# Altium schematic symbol library Active.SchLib: 21 symbols
Pins are listed as number, name and electrical type; pins without a type are passive.

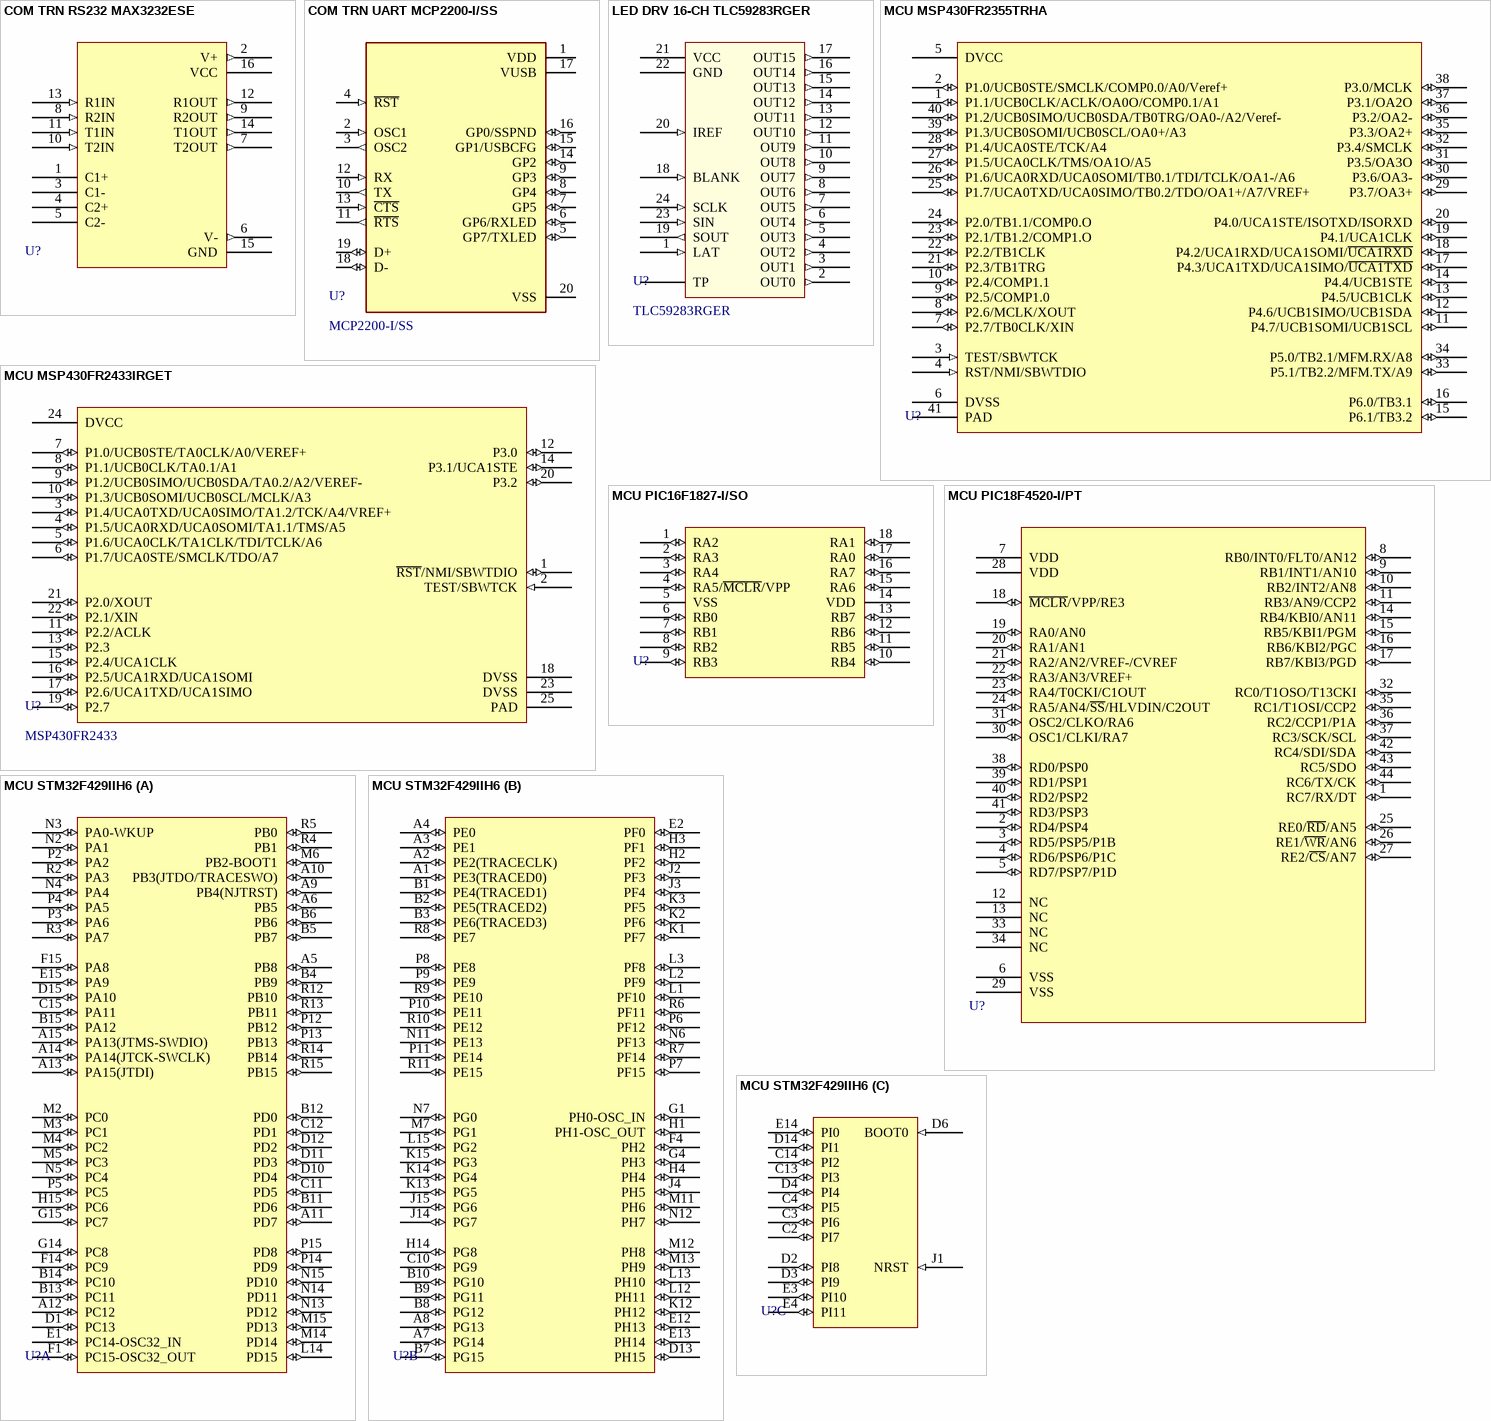
[diagram p0: symbols COM TRN RS232 MAX3232ESE to MCU STM32F429IIH6]

## COM TRN RS232 MAX3232ESE
designator U?
footprint SMD SOIC-16
pins: 1 C1+, 2 V+ (out), 3 C1-, 4 C2+, 5 C2-, 6 V- (out), 7 T2OUT (out), 8 R2IN (in), 9 R2OUT (out), 10 T2IN (in), 11 T1IN (in), 12 R1OUT (out), 13 R1IN (in), 14 T1OUT (out), 15 GND (power), 16 VCC (power)

## COM TRN UART MCP2200-I/SS
designator U?, comment MCP2200-I/SS
footprint SMD SSOP-20
pins: 1 VDD (power), 2 OSC1 (in), 3 OSC2 (out), 4 ~{RST} (in), 5 GP7/TXLED (io), 6 GP6/RXLED (io), 7 GP5 (io), 8 GP4 (io), 9 GP3 (io), 10 TX (out), 11 ~{RTS} (out), 12 RX (in), 13 ~{CTS} (in), 14 GP2 (io), 15 GP1/USBCFG (io), 16 GP0/SSPND (io), 17 VUSB (power), 18 D- (io), 19 D+ (io), 20 VSS (power)

## LED DRV 16-CH TLC59283RGER
designator U?, comment TLC59283RGER
footprint VQFN-24
pins: 1 LAT (in), 2 OUT0 (out), 3 OUT1 (out), 4 OUT2 (out), 5 OUT3 (out), 6 OUT4 (out), 7 OUT5 (out), 8 OUT6 (out), 9 OUT7 (out), 10 OUT8 (out), 11 OUT9 (out), 12 OUT10 (out), 13 OUT11 (out), 14 OUT12 (out), 15 OUT13 (out), 16 OUT14 (out), 17 OUT15 (out), 18 BLANK (in), 19 SOUT (out), 20 IREF (in), 21 VCC (power), 22 GND (power), 23 SIN (in), 24 SCLK (in), 25 TP (power)

## MCU MSP430FR2355TRHA
designator U?
footprint VQFN-40 (QFN, 40-Leads, Body 6.00x6.00mm, Pitch 0.50mm, Thermal Pad 3.52x2.62mm, IPC Medium Density)
pins: 1 P1.1/UCB0CLK/ACLK/OA0O/COMP0.1/A1 (io), 2 P1.0/UCB0STE/SMCLK/COMP0.0/A0/Veref+ (io), 3 TEST/SBWTCK (in), 4 RST/NMI/SBWTDIO (in), 5 DVCC (power), 6 DVSS (power), 7 P2.7/TB0CLK/XIN (io), 8 P2.6/MCLK/XOUT (io), 9 P2.5/COMP1.0 (io), 10 P2.4/COMP1.1 (io), 11 P4.7/UCB1SOMI/UCB1SCL (io), 12 P4.6/UCB1SIMO/UCB1SDA (io), 13 P4.5/UCB1CLK (io), 14 P4.4/UCB1STE (io), 15 P6.1/TB3.2 (io), 16 P6.0/TB3.1 (io), 17 P4.3/UCA1TXD/UCA1SIMO/~{UCA1TXD} (io), 18 P4.2/UCA1RXD/UCA1SOMI/~{UCA1RXD} (io), 19 P4.1/UCA1CLK (io), 20 P4.0/UCA1STE/ISOTXD/ISORXD (io), 21 P2.3/TB1TRG (io), 22 P2.2/TB1CLK (io), 23 P2.1/TB1.2/COMP1.O (io), 24 P2.0/TB1.1/COMP0.O (io), 25 P1.7/UCA0TXD/UCA0SIMO/TB0.2/TDO/OA1+/A7/VREF+ (io), 26 P1.6/UCA0RXD/UCA0SOMI/TB0.1/TDI/TCLK/OA1-/A6 (io), 27 P1.5/UCA0CLK/TMS/OA1O/A5 (io), 28 P1.4/UCA0STE/TCK/A4 (io), 29 P3.7/OA3+ (io), 30 P3.6/OA3- (io), 31 P3.5/OA3O (io), 32 P3.4/SMCLK (io), 33 P5.1/TB2.2/MFM.TX/A9 (io), 34 P5.0/TB2.1/MFM.RX/A8 (io), 35 P3.3/OA2+ (io), 36 P3.2/OA2- (io), 37 P3.1/OA2O (io), 38 P3.0/MCLK (io), 39 P1.3/UCB0SOMI/UCB0SCL/OA0+/A3 (io), 40 P1.2/UCB0SIMO/UCB0SDA/TB0TRG/OA0-/A2/Veref- (io), 41 PAD (power)

## MCU MSP430FR2433IRGET
designator U?, comment MSP430FR2433
footprint VQFN-24
pins: 1 ~{RST}/NMI/SBWTDIO (io), 2 TEST/SBWTCK (in), 3 P1.4/UCA0TXD/UCA0SIMO/TA1.2/TCK/A4/VREF+ (io), 4 P1.5/UCA0RXD/UCA0SOMI/TA1.1/TMS/A5 (io), 5 P1.6/UCA0CLK/TA1CLK/TDI/TCLK/A6 (io), 6 P1.7/UCA0STE/SMCLK/TDO/A7 (io), 7 P1.0/UCB0STE/TA0CLK/A0/VEREF+ (io), 8 P1.1/UCB0CLK/TA0.1/A1 (io), 9 P1.2/UCB0SIMO/UCB0SDA/TA0.2/A2/VEREF- (io), 10 P1.3/UCB0SOMI/UCB0SCL/MCLK/A3 (io), 11 P2.2/ACLK (io), 12 P3.0 (io), 13 P2.3 (io), 14 P3.1/UCA1STE (io), 15 P2.4/UCA1CLK (io), 16 P2.5/UCA1RXD/UCA1SOMI (io), 17 P2.6/UCA1TXD/UCA1SIMO (io), 18 DVSS (power), 19 P2.7 (io), 20 P3.2 (io), 21 P2.0/XOUT (io), 22 P2.1/XIN (io), 23 DVSS (power), 24 DVCC (power), 25 PAD (power)

## MCU PIC16F1827-I/SO
designator U?
footprint SMD SOIC-18 PIC16F1827-I/SO
pins: 1 RA2 (io), 2 RA3 (io), 3 RA4 (io), 4 RA5/~{MCLR}/VPP (io), 5 VSS (power), 6 RB0 (io), 7 RB1 (io), 8 RB2 (io), 9 RB3 (io), 10 RB4 (io), 11 RB5 (io), 12 RB6 (io), 13 RB7 (io), 14 VDD (power), 15 RA6 (io), 16 RA7 (io), 17 RA0 (io), 18 RA1 (io)

## MCU PIC18F4520-I/PT
designator U?
footprint SMD TQFP-44 PIC18F4520-I/PT
pins: 1 RC7/RX/DT (io), 2 RD4/PSP4 (io), 3 RD5/PSP5/P1B (io), 4 RD6/PSP6/P1C (io), 5 RD7/PSP7/P1D (io), 6 VSS (power), 7 VDD (power), 8 RB0/INT0/FLT0/AN12 (io), 9 RB1/INT1/AN10 (io), 10 RB2/INT2/AN8 (io), 11 RB3/AN9/CCP2 (io), 12 NC, 13 NC, 14 RB4/KBI0/AN11 (io), 15 RB5/KBI1/PGM (io), 16 RB6/KBI2/PGC (io), 17 RB7/KBI3/PGD (io), 18 ~{MCLR}/VPP/RE3 (io), 19 RA0/AN0 (io), 20 RA1/AN1 (io), 21 RA2/AN2/VREF-/CVREF (io), 22 RA3/AN3/VREF+ (io), 23 RA4/T0CKI/C1OUT (io), 24 RA5/AN4/~{SS}/HLVDIN/C2OUT (io), 25 RE0/~{RD}/AN5 (io), 26 RE1/~{WR}/AN6 (io), 27 RE2/~{CS}/AN7 (io), 28 VDD (power), 29 VSS (power), 30 OSC1/CLKI/RA7 (io), 31 OSC2/CLKO/RA6 (io), 32 RC0/T1OSO/T13CKI (io), 33 NC, 34 NC, 35 RC1/T1OSI/CCP2 (io), 36 RC2/CCP1/P1A (io), 37 RC3/SCK/SCL (io), 38 RD0/PSP0 (io), 39 RD1/PSP1 (io), 40 RD2/PSP2 (io), 41 RD3/PSP3 (io), 42 RC4/SDI/SDA (io), 43 RC5/SDO (io), 44 RC6/TX/CK (io)

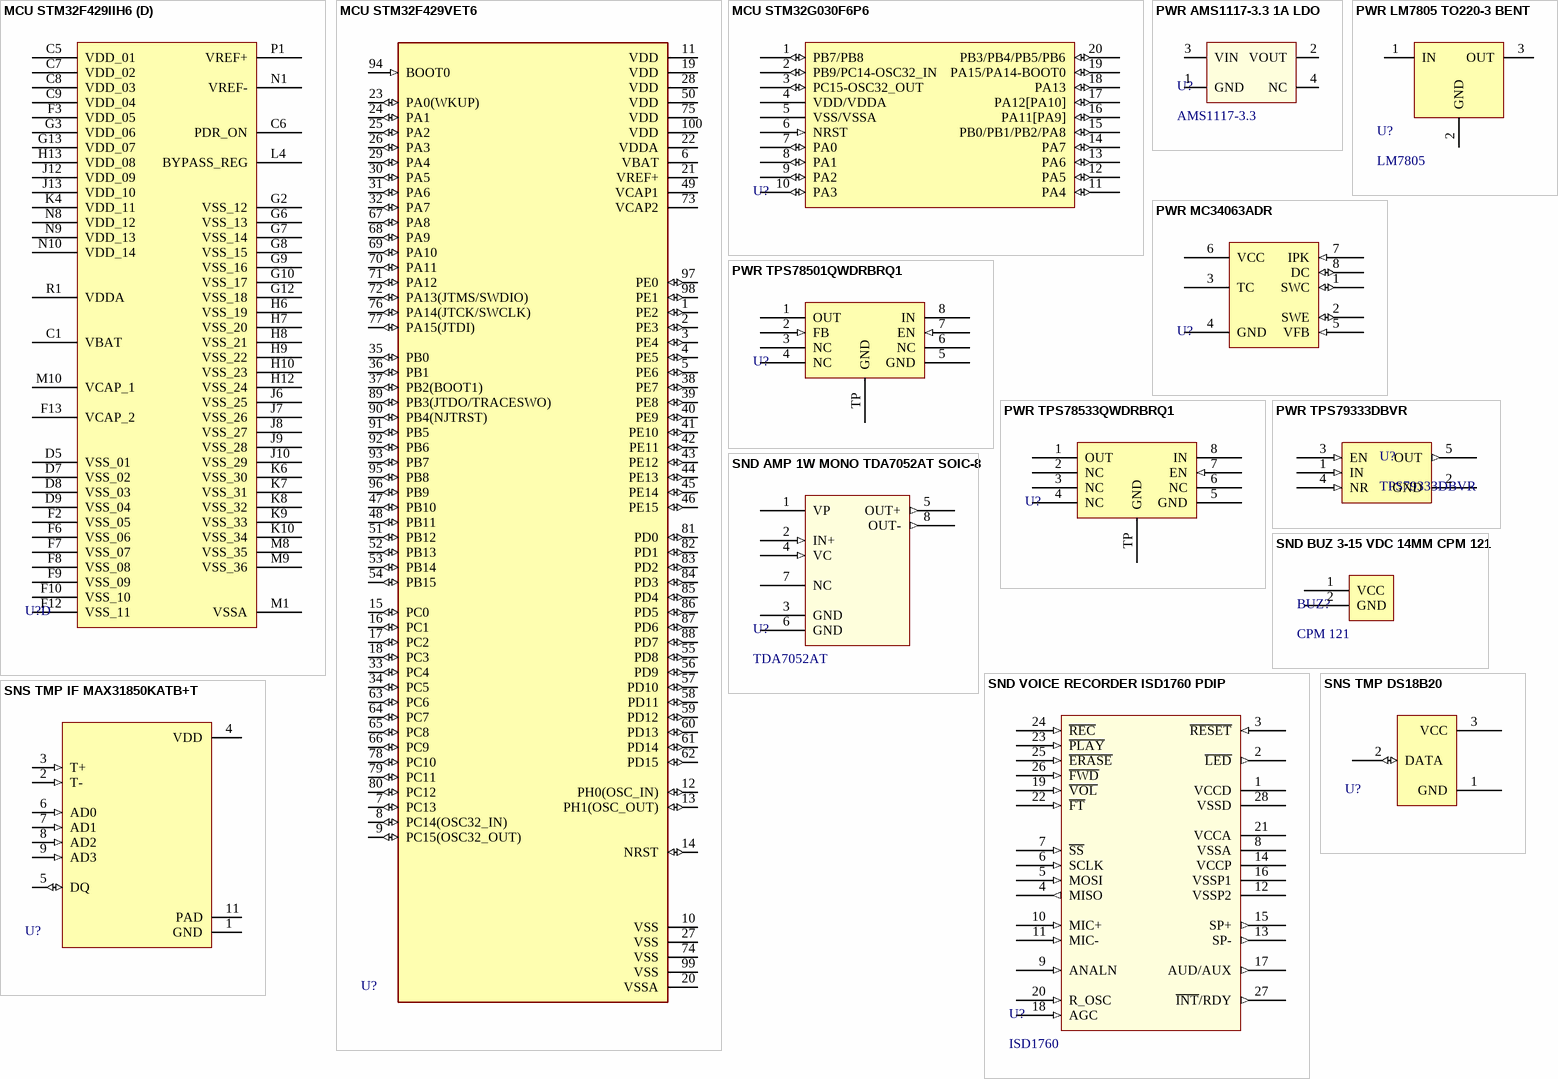
[diagram p1: symbols MCU STM32F429IIH6 to SNS TMP IF MAX31850KATB+T]

## MCU STM32F429IIH6
designator U?
footprint SMD UFBGA-201 (176+25) STM32F429IIH6
part A pins: A5 PB8 (io), A6 PB5 (io), A9 PB4(NJTRST) (io), A10 PB3(JTDO/TRACESWO) (io), A11 PD7 (io), A12 PC12 (io), A13 PA15(JTDI) (io), A14 PA14(JTCK-SWCLK) (io), A15 PA13(JTMS-SWDIO) (io), B4 PB9 (io), B5 PB7 (io), B6 PB6 (io), B11 PD6 (io), B12 PD0 (io), B13 PC11 (io), B14 PC10 (io), B15 PA12 (io), C11 PD5 (io), C12 PD1 (io), C15 PA11 (io), D1 PC13 (io), D10 PD4 (io), D11 PD3 (io), D12 PD2 (io), D15 PA10 (io), E1 PC14-OSC32_IN (io), E15 PA9 (io), F1 PC15-OSC32_OUT (io), F14 PC9 (io), F15 PA8 (io), G14 PC8 (io), G15 PC7 (io), H15 PC6 (io), L14 PD15 (io), M2 PC0 (io), M3 PC1 (io), M4 PC2 (io), M5 PC3 (io), M6 PB2-BOOT1 (io), M14 PD14 (io), M15 PD13 (io), N2 PA1 (io), N3 PA0-WKUP (io), N4 PA4 (io), N5 PC4 (io), N13 PD12 (io), N14 PD11 (io), N15 PD10 (io), P2 PA2 (io), P3 PA6 (io), P4 PA5 (io), P5 PC5 (io), P12 PB12 (io), P13 PB13 (io), P14 PD9 (io), P15 PD8 (io), R2 PA3 (io), R3 PA7 (io), R4 PB1 (io), R5 PB0 (io), R12 PB10 (io), R13 PB11 (io), R14 PB14 (io), R15 PB15 (io)
part B pins: A1 PE3(TRACED0) (io), A2 PE2(TRACECLK) (io), A3 PE1 (io), A4 PE0 (io), A7 PG14 (io), A8 PG13 (io), B1 PE4(TRACED1) (io), B2 PE5(TRACED2) (io), B3 PE6(TRACED3) (io), B7 PG15 (io), B8 PG12 (io), B9 PG11 (io), B10 PG10 (io), C10 PG9 (io), D13 PH15 (io), E2 PF0 (io), E12 PH13 (io), E13 PH14 (io), F4 PH2 (io), G1 PH0-OSC_IN (io), G4 PH3 (io), H1 PH1-OSC_OUT (io), H2 PF2 (io), H3 PF1 (io), H4 PH4 (io), H14 PG8 (io), J2 PF3 (io), J3 PF4 (io), J4 PH5 (io), J14 PG7 (io), J15 PG6 (io), K1 PF7 (io), K2 PF6 (io), K3 PF5 (io), K12 PH12 (io), K13 PG5 (io), K14 PG4 (io), K15 PG3 (io), L1 PF10 (io), L2 PF9 (io), L3 PF8 (io), L12 PH11 (io), L13 PH10 (io), L15 PG2 (io), M7 PG1 (io), M11 PH6 (io), M12 PH8 (io), M13 PH9 (io), N6 PF13 (io), N7 PG0 (io), N11 PE13 (io), N12 PH7 (io), P6 PF12 (io), P7 PF15 (io), P8 PE8 (io), P9 PE9 (io), P10 PE11 (io), P11 PE14 (io), R6 PF11 (io), R7 PF14 (io), R8 PE7 (io), R9 PE10 (io), R10 PE12 (io), R11 PE15 (io)
part C pins: C2 PI7 (io), C3 PI6 (io), C4 PI5 (io), C13 PI3 (io), C14 PI2 (io), D2 PI8 (io), D3 PI9 (io), D4 PI4 (io), D6 BOOT0 (in), D14 PI1 (io), E3 PI10 (io), E4 PI11 (io), E14 PI0 (io), J1 NRST (in)
part D pins: C1 VBAT (power), C5 VDD_01 (power), C6 PDR_ON (power), C7 VDD_02 (power), C8 VDD_03 (power), C9 VDD_04 (power), D5 VSS_01 (power), D7 VSS_02 (power), D8 VSS_03 (power), D9 VSS_04 (power), F2 VSS_05 (power), F3 VDD_05 (power), F6 VSS_06 (power), F7 VSS_07 (power), F8 VSS_08 (power), F9 VSS_09 (power), F10 VSS_10 (power), F12 VSS_11 (power), F13 VCAP_2 (power), G2 VSS_12 (power), G3 VDD_06 (power), G6 VSS_13 (power), G7 VSS_14 (power), G8 VSS_15 (power), G9 VSS_16 (power), G10 VSS_17 (power), G12 VSS_18 (power), G13 VDD_07 (power), H6 VSS_19 (power), H7 VSS_20 (power), H8 VSS_21 (power), H9 VSS_22 (power), H10 VSS_23 (power), H12 VSS_24 (power), H13 VDD_08 (power), J6 VSS_25 (power), J7 VSS_26 (power), J8 VSS_27 (power), J9 VSS_28 (power), J10 VSS_29 (power), J12 VDD_09 (power), J13 VDD_10 (power), K4 VDD_11 (power), K6 VSS_30 (power), K7 VSS_31 (power), K8 VSS_32 (power), K9 VSS_33 (power), K10 VSS_34 (power), L4 BYPASS_REG (power), M1 VSSA (power), M8 VSS_35 (power), M9 VSS_36 (power), M10 VCAP_1 (power), N1 VREF- (power), N8 VDD_12 (power), N9 VDD_13 (power), N10 VDD_14 (power), P1 VREF+ (power), R1 VDDA (power)

## MCU STM32F429VET6
designator U?
footprint SMD LQFP-100 STM32F429VET6
pins: 1 PE2 (io), 2 PE3 (io), 3 PE4 (io), 4 PE5 (io), 5 PE6 (io), 6 VBAT (power), 7 PC13 (io), 8 PC14(OSC32_IN) (io), 9 PC15(OSC32_OUT) (io), 10 VSS (power), 11 VDD (power), 12 PH0(OSC_IN) (io), 13 PH1(OSC_OUT) (io), 14 NRST (io), 15 PC0 (io), 16 PC1 (io), 17 PC2 (io), 18 PC3 (io), 19 VDD (power), 20 VSSA (power), 21 VREF+ (power), 22 VDDA (power), 23 PA0(WKUP) (io), 24 PA1 (io), 25 PA2 (io), 26 PA3 (io), 27 VSS (power), 28 VDD (power), 29 PA4 (io), 30 PA5 (io), 31 PA6 (io), 32 PA7 (io), 33 PC4 (io), 34 PC5 (io), 35 PB0 (io), 36 PB1 (io), 37 PB2(BOOT1) (io), 38 PE7 (io), 39 PE8 (io), 40 PE9 (io), 41 PE10 (io), 42 PE11 (io), 43 PE12 (io), 44 PE13 (io), 45 PE14 (io), 46 PE15 (io), 47 PB10 (io), 48 PB11 (io), 49 VCAP1 (power), 50 VDD (power), 51 PB12 (io), 52 PB13 (io), 53 PB14 (io), 54 PB15 (io), 55 PD8 (io), 56 PD9 (io), 57 PD10 (io), 58 PD11 (io), 59 PD12 (io), 60 PD13 (io), 61 PD14 (io), 62 PD15 (io), 63 PC6 (io), 64 PC7 (io), 65 PC8 (io), 66 PC9 (io), 67 PA8 (io), 68 PA9 (io), 69 PA10 (io), 70 PA11 (io), 71 PA12 (io), 72 PA13(JTMS/SWDIO) (io), 73 VCAP2 (power), 74 VSS (power), 75 VDD (power), 76 PA14(JTCK/SWCLK) (io), 77 PA15(JTDI) (io), 78 PC10 (io), 79 PC11 (io), 80 PC12 (io), 81 PD0 (io), 82 PD1 (io), 83 PD2 (io), 84 PD3 (io), 85 PD4 (io), 86 PD5 (io), 87 PD6 (io), 88 PD7 (io), 89 PB3(JTDO/TRACESWO) (io), 90 PB4(NJTRST) (io), 91 PB5 (io), 92 PB6 (io), 93 PB7 (io), 94 BOOT0 (in), 95 PB8 (io), 96 PB9 (io), 97 PE0 (io), 98 PE1 (io), 99 VSS (power), 100 VDD (power)

## MCU STM32G030F6P6
designator U?
footprint TSOP-20 (TSOP, 20-Leads, Body 6.50x4.40mm, Pitch 0.65mm, IPC Medium Density)
pins: 1 PB7/PB8 (io), 2 PB9/PC14-OSC32_IN (io), 3 PC15-OSC32_OUT (io), 4 VDD/VDDA (power), 5 VSS/VSSA (power), 6 NRST (in), 7 PA0 (io), 8 PA1 (io), 9 PA2 (io), 10 PA3 (io), 11 PA4 (io), 12 PA5 (io), 13 PA6 (io), 14 PA7 (io), 15 PB0/PB1/PB2/PA8 (io), 16 PA11[PA9] (io), 17 PA12[PA10] (io), 18 PA13 (io), 19 PA15/PA14-BOOT0 (io), 20 PB3/PB4/PB5/PB6 (io)

## PWR AMS1117-3.3 1A LDO
designator U?, comment AMS1117-3.3
footprint SOT-223
pins: 1 GND (power), 2 VOUT (power), 3 VIN (power), 4 NC

## PWR LM7805 TO220-3 BENT
designator U?, comment LM7805
footprint THT TO220-3 BENT
pins: 1 IN (power), 2 GND (power), 3 OUT (power)

## PWR MC34063ADR
designator U?
footprint SOIC-8 (SOIC, 8-Leads, Body 4.90x3.90mm, Pitch 1.27mm, IPC Medium Density)
pins: 1 SWC (io), 2 SWE (io), 3 TC, 4 GND (power), 5 VFB (in), 6 VCC (power), 7 IPK (in), 8 DC (io)

## PWR TPS78501QWDRBRQ1
designator U?
footprint VSON-8
pins: 1 OUT (power), 2 FB (in), 3 NC, 4 NC, 5 GND (power), 6 NC, 7 EN (in), 8 IN (power), TP GND (power)

## PWR TPS78533QWDRBRQ1
designator U?
footprint VSON-8
pins: 1 OUT (power), 2 NC, 3 NC, 4 NC, 5 GND (power), 6 NC, 7 EN (in), 8 IN (power), TP GND (power)

## PWR TPS79333DBVR
designator U?, comment TPS79333DBVR
footprint SOT23-5
pins: 1 IN (in), 2 GND (power), 3 EN (in), 4 NR (in), 5 OUT (out)

## SND AMP 1W MONO TDA7052AT SOIC-8
designator U?, comment TDA7052AT
footprint SOIC-8 (SOIC, 8-Leads, Body 4.90x3.90mm, Pitch 1.27mm, IPC Medium Density)
pins: 1 VP (power), 2 IN+ (in), 3 GND (power), 4 VC (in), 5 OUT+ (out), 6 GND (power), 7 NC, 8 OUT- (out)

## SND BUZ 3-15 VDC 14MM CPM 121
designator BUZ?, comment CPM 121
footprint THT SND BUZ 14MM
pins: 1 VCC (power), 2 GND (power)

## SND VOICE RECORDER ISD1760 PDIP
designator U?, comment ISD1760
footprint THT DIP-28
pins: 1 VCCD (power), 2 ~{LED} (out), 3 ~{RESET} (in), 4 MISO (out), 5 MOSI (in), 6 SCLK (in), 7 ~{SS} (in), 8 VSSA (power), 9 ANALN (in), 10 MIC+ (in), 11 MIC- (in), 12 VSSP2 (power), 13 SP- (out), 14 VCCP (power), 15 SP+ (out), 16 VSSP1 (power), 17 AUD/AUX (out), 18 AGC (in), 19 ~{VOL} (in), 20 R_OSC (in), 21 VCCA (power), 22 ~{FT} (in), 23 ~{PLAY} (in), 24 ~{REC} (in), 25 ~{ERASE} (in), 26 ~{FWD} (in), 27 ~{INT}/RDY (out), 28 VSSD (power)

## SNS TMP DS18B20
designator U?
footprint THT TO-92 SMALL
pins: 1 GND (power), 2 DATA (io), 3 VCC (power)

## SNS TMP IF MAX31850KATB+T
designator U?
footprint TDFN-10
pins: 1 GND (power), 2 T- (in), 3 T+ (in), 4 VDD (power), 5 DQ (io), 6 AD0 (in), 7 AD1 (in), 8 AD2 (in), 9 AD3 (in), 11 PAD (power)